# Altium footprint library SiLPA.PcbLib: 19 footprints (part 1 of 2)
Each footprint in its own frame and in the unit in brackets; x right, y up, seen from the top. Pads: shape width x height; smd on the part's side, far side on the other; paste and mask are expansions set on the pad; w line width, h text height; cw(c..) or ccw(c..) is an arc to the next point about the centre after c.
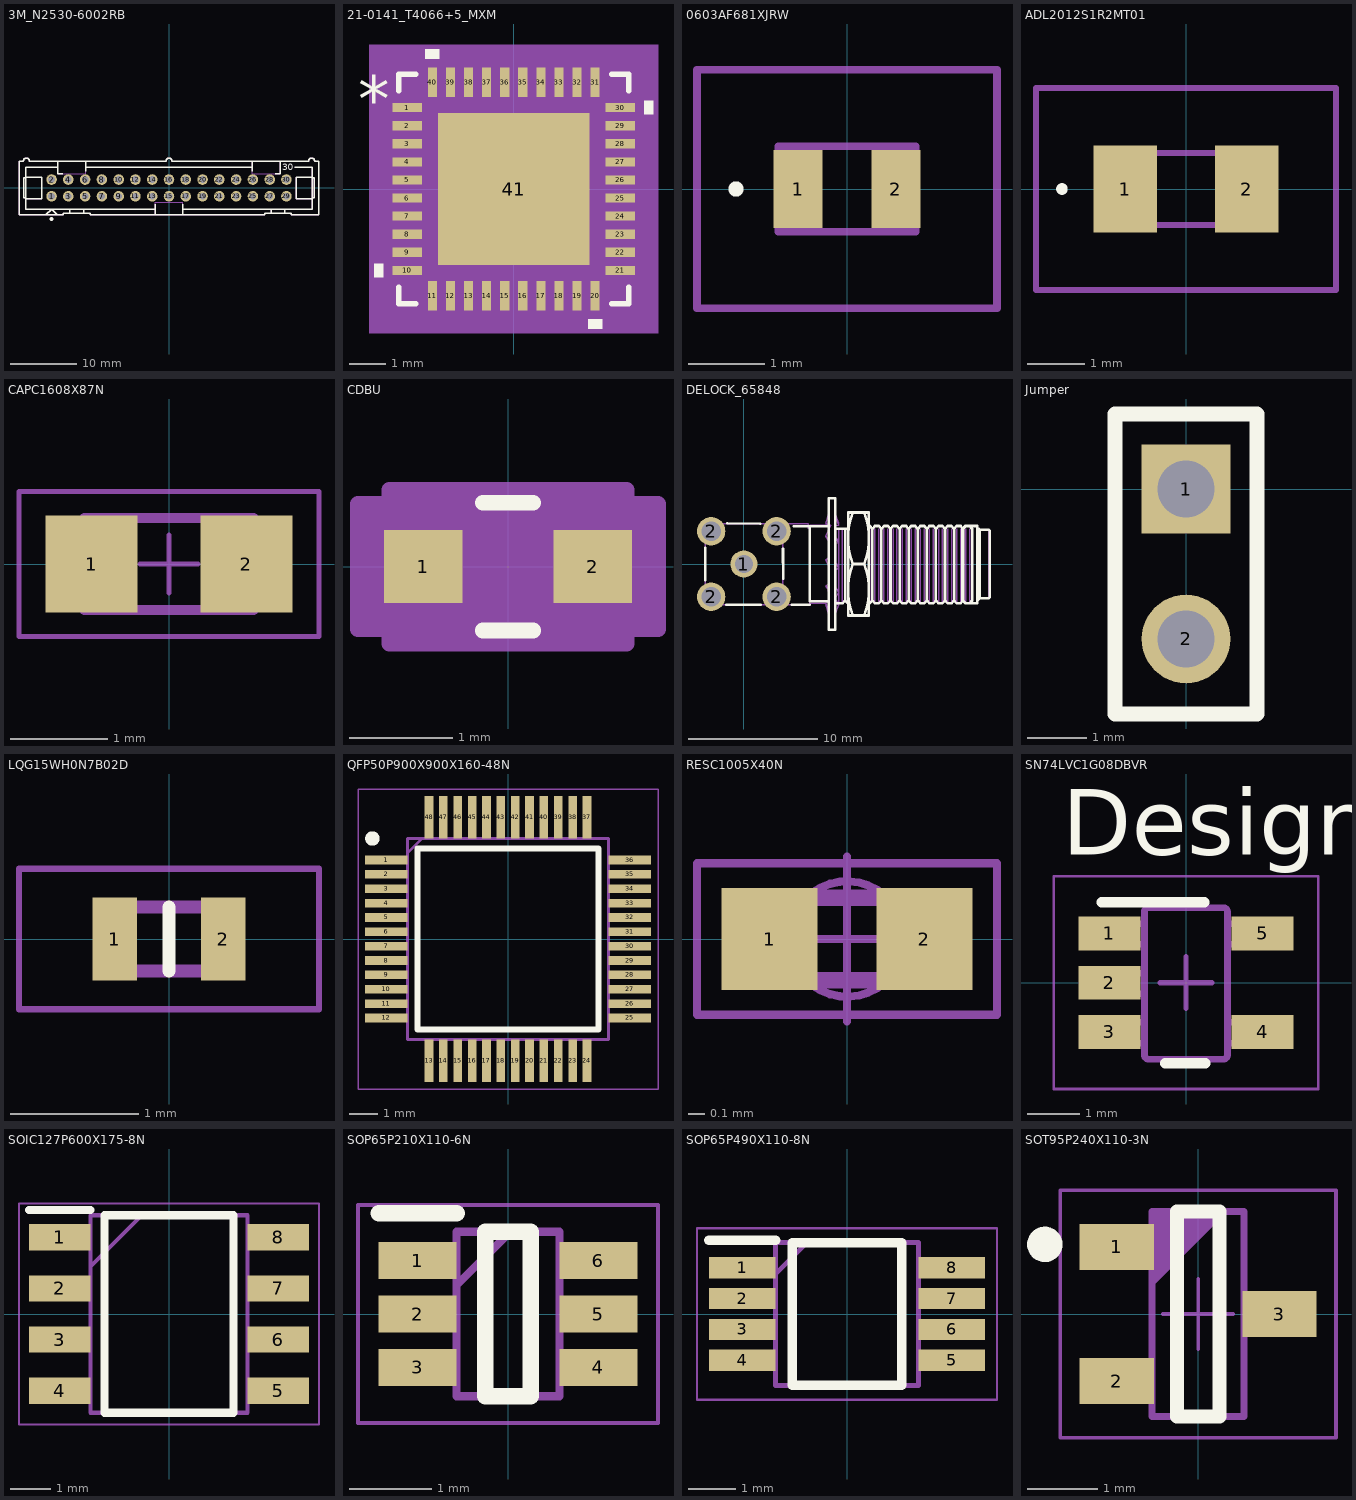
[diagram p0: the footprints below, top view; thin cyan lines are the x and y axes]

## 3M_N2530-6002RB [mm]
pads (30):
  round 1.6 hole 1: 1(-17.78,-1.27) 2(-17.78,1.27) 3(-15.24,-1.27) 4(-15.24,1.27) 5(-12.7,-1.27) 6(-12.7,1.27) 7(-10.16,-1.27) 8(-10.16,1.27) 9(-7.62,-1.27) 10(-7.62,1.27) 11(-5.08,-1.27) 12(-5.08,1.27) 13(-2.54,-1.27) 14(-2.54,1.27) 15(0,-1.27) 16(0,1.27) 17(2.54,-1.27) 18(2.54,1.27) 19(5.08,-1.27) 20(5.08,1.27) 21(7.62,-1.27) 22(7.62,1.27) 23(10.16,-1.27) 24(10.16,1.27) 25(12.7,-1.27) 26(12.7,1.27) 27(15.24,-1.27) 28(15.24,1.27) 29(17.78,-1.27) 30(17.78,1.27)
Top Overlay:
  circle w0.3: c-17.78,-4.699 r0.15
  lines w0.2: -21.692,-1.603 -19.279,-1.603 -19.279,1.603 -21.692,1.603 ; -21.692,-1.524 -21.996,-1.524 -21.996,1.524 -21.692,1.524 ; -18.644,-4.064 -17.78,-3.2 -16.916,-4.064 ; -16.828,3.15 -21.692,3.15 -21.692,-3.2 -2.096,-3.2 ; -16.828,4.064 -16.828,2.159 -16.119,2.159 ; -15.011,-3.835 -15.011,-3.2 ; -12.929,-3.835 -12.929,-3.2 ; -12.637,2.518 -12.637,4.064 ; -12.637,3.15 12.637,3.15 ; -2.096,-4.064 -2.096,-2.438 ; 2.095,-4.064 2.095,-2.438 ; 2.095,-3.2 21.692,-3.2 21.692,3.15 19.05,3.15 ; 12.637,2.518 12.637,4.064 ; 15.469,-3.835 15.469,-3.2 ; 16.119,2.159 16.828,2.159 16.828,4.064 ; 17.551,-3.835 17.551,-3.2 ; 21.692,-1.603 19.279,-1.603 19.279,1.603 21.692,1.603 ; 21.692,-1.524 21.996,-1.524 21.996,1.524 21.692,1.524 ; -22.708,-4.064 -22.708,4.064 -22.047,4.064 cw(c-21.59,4.064) -21.133,4.064 -0.457,4.064 cw(c0,4.064) 0.457,4.064 21.133,4.064 cw(c21.59,4.064) 22.047,4.064 22.708,4.064 22.708,-4.064 18.542,-4.064 18.542,-3.835 14.478,-3.835 14.478,-4.064 -11.938,-4.064 -11.938,-3.835 -16.002,-3.835 -16.002,-4.064 -22.708,-4.064
  text "30" at 17.145,2.667 h1.02
Mechanical 14:
  lines w0.1: -21.692,-1.603 -19.279,-1.603 -19.279,1.603 -21.692,1.603 ; -21.692,-1.524 -21.996,-1.524 -21.996,1.524 -21.692,1.524 ; -18.644,-4.064 -17.78,-3.2 -16.916,-4.064 ; -16.828,3.15 -21.692,3.15 -21.692,-3.2 -2.096,-3.2 ; -16.828,4.064 -16.828,2.159 -12.637,2.159 -12.637,4.064 ; -15.011,-3.835 -15.011,-3.2 ; -12.929,-3.835 -12.929,-3.2 ; -12.637,3.15 12.637,3.15 ; -2.096,-4.064 -2.096,-2.159 2.095,-2.159 2.095,-4.064 ; 2.095,-3.2 21.692,-3.2 21.692,3.15 19.05,3.15 ; 12.637,4.064 12.637,2.159 16.828,2.159 16.828,4.064 ; 15.469,-3.835 15.469,-3.2 ; 17.551,-3.835 17.551,-3.2 ; 21.692,-1.603 19.279,-1.603 19.279,1.603 21.692,1.603 ; 21.692,-1.524 21.996,-1.524 21.996,1.524 21.692,1.524 ; -22.708,-4.064 -22.708,4.064 -22.047,4.064 cw(c-21.59,4.064) -21.133,4.064 -0.457,4.064 cw(c0,4.064) 0.457,4.064 21.133,4.064 cw(c21.59,4.064) 22.047,4.064 22.708,4.064 22.708,-4.064 18.542,-4.064 18.542,-3.835 14.478,-3.835 14.478,-4.064 -11.938,-4.064 -11.938,-3.835 -16.002,-3.835 -16.002,-4.064 -22.708,-4.064
  text "30" at 17.145,2.667 h1.02
3D body "3M_N2530-6002RB.stp": height 9.91, standoff -2.84, extent -22.707,-4.115 22.708,4.521

## 21-0141_T4066+5_MXM [mil]
pads (41):
  rect 32x10 smd paste+0 mask+0: 1(-116,88.58) 2(-116,68.9) 3(-116,49.21) 4(-116,29.53) 5(-116,9.84) 6(-116,-9.84) 7(-116,-29.53) 8(-116,-49.21) 9(-116,-68.9) 10(-116,-88.58) 21(116,-88.58) 22(116,-68.9) 23(116,-49.21) 24(116,-29.53) 25(116,-9.84) 26(116,9.84) 27(116,29.53) 28(116,49.21) 29(116,68.9) 30(116,88.58)
  rect 10x32 smd paste+0 mask+0: 11(-88.58,-116) 12(-68.9,-116) 13(-49.21,-116) 14(-29.53,-116) 15(-9.84,-116) 16(9.84,-116) 17(29.53,-116) 18(49.21,-116) 19(68.9,-116) 20(88.58,-116) 31(88.58,116) 32(68.9,116) 33(49.21,116) 34(29.53,116) 35(9.84,116) 36(-9.84,116) 37(-29.53,116) 38(-49.21,116) 39(-68.9,116) 40(-88.58,116)
  rect 165x165 smd paste-82 mask+0: 41(0,0)
Top Overlay:
  region: -81.08,142 -96.08,142 -96.08,152 -81.08,152
  region: 142,96.08 152,96.08 152,81.08 142,81.08
  region: 96.08,-142 81.08,-142 81.08,-152 96.08,-152
  region: -142,-81.08 -152,-81.08 -152,-96.08 -142,-96.08
  lines w6: -125,-106.68 -125,-125 -106.68,-125 ; -125,106.68 -125,125 -106.68,125 ; 106.68,-125 125,-125 125,-106.68 ; 106.68,125 125,125 125,106.68
  text "*" at -169.5,73.43 h50
Top Paste:
  region: 78.56,-31.44 31.44,-31.44 31.44,-78.56 78.56,-78.56
  region: 78.56,23.56 31.44,23.56 31.44,-23.56 78.56,-23.56
  region: 78.56,78.56 31.44,78.56 31.44,31.44 78.56,31.44
  region: 23.56,-31.44 -23.56,-31.44 -23.56,-78.56 23.56,-78.56
  region: 23.56,23.56 -23.56,23.56 -23.56,-23.56 23.56,-23.56
  region: 23.56,78.56 -23.56,78.56 -23.56,31.44 23.56,31.44
  region: -31.44,-31.44 -78.56,-31.44 -78.56,-78.56 -31.44,-78.56
  region: -31.44,23.56 -78.56,23.56 -78.56,-23.56 -31.44,-23.56
  region: -31.44,78.56 -78.56,78.56 -78.56,31.44 -31.44,31.44
Mechanical 5:
  region: 157,-157 -157,-157 -157,157 157,157
Mechanical 13:
  lines w1: -120,70 -70,120 ; -120,-120 -120,120 120,120 120,-120 -120,-120 ; -120,-94.58 -120,-82.58 -120,-94.58 ; -120,-74.9 -120,-62.9 -120,-74.9 ; -120,-55.21 -120,-43.21 -120,-55.21 ; -120,-35.53 -120,-23.53 -120,-35.53 ; -120,-15.84 -120,-3.84 -120,-15.84 ; -120,3.84 -120,15.84 -120,3.84 ; -120,23.53 -120,35.53 -120,23.53 ; -120,43.21 -120,55.21 -120,43.21 ; -120,62.9 -120,74.9 -120,62.9 ; -120,82.58 -120,94.58 -120,82.58 ; -94.58,-120 -82.58,-120 -94.58,-120 ; -94.58,120 -82.58,120 -94.58,120 ; -74.9,-120 -62.9,-120 -74.9,-120 ; -74.9,120 -62.9,120 -74.9,120 ; -55.21,-120 -43.21,-120 -55.21,-120 ; -55.21,120 -43.21,120 -55.21,120 ; -35.53,-120 -23.53,-120 -35.53,-120 ; -35.53,120 -23.53,120 -35.53,120 ; -15.84,-120 -3.84,-120 -15.84,-120 ; -15.84,120 -3.84,120 -15.84,120 ; 3.84,-120 15.84,-120 3.84,-120 ; 3.84,120 15.84,120 3.84,120 ; 23.53,-120 35.53,-120 23.53,-120 ; 23.53,120 35.53,120 23.53,120 ; 43.21,-120 55.21,-120 43.21,-120 ; 43.21,120 55.21,120 43.21,120 ; 62.9,-120 74.9,-120 62.9,-120 ; 62.9,120 74.9,120 62.9,120 ; 82.58,-120 94.58,-120 82.58,-120 ; 82.58,120 94.58,120 82.58,120 ; 120,-94.58 120,-82.58 120,-94.58 ; 120,-74.9 120,-62.9 120,-74.9 ; 120,-55.21 120,-43.21 120,-55.21 ; 120,-35.53 120,-23.53 120,-35.53 ; 120,-15.84 120,-3.84 120,-15.84 ; 120,3.84 120,15.84 120,3.84 ; 120,23.53 120,35.53 120,23.53 ; 120,43.21 120,55.21 120,43.21 ; 120,62.9 120,74.9 120,62.9 ; 120,82.58 120,94.58 120,82.58
  text "*" at -112.5,73.43 h50
Mechanical 15:
  region: -103.58,-130 -130,-130 -130,-103.58 -142,-103.58 -142,103.58 -130,103.58 -130,130 -103.58,130 -103.58,142 103.58,142 103.58,130 130,130 130,103.58 142,103.58 142,-103.58 130,-103.58 130,-130 103.58,-130 103.58,-142 -103.58,-142
  lines w6: -142,-103.58 -142,103.58 -130,103.58 -130,130 -103.58,130 -103.58,142 103.58,142 103.58,130 130,130 130,103.58 142,103.58 142,-103.58 130,-103.58 130,-130 103.58,-130 103.58,-142 -103.58,-142 -103.58,-130 -130,-130 -130,-103.58 -142,-103.58
3D body "21-0141_T4066+5_MXM.step": height 32.09, standoff 0, extent -120,-120 120,120
3D body "21-0141_T4066+5_MXM.step": height 32.09, standoff 0, extent -120,-120 120,120

## 0603AF681XJRW [mm]
pads (2):
  rect 0.64x1.02 smd: 1(-0.64,0) 2(0.64,0)
Top Overlay:
  lines w0.1: -1.5,0 ccw(c-1.45,0) -1.4,0 ccw(c-1.45,0) -1.5,0
Mechanical 15:
  lines w0.1: -0.9,-0.56 -0.9,0.56 0.9,0.56 0.9,-0.56 -0.9,-0.56
Mechanical 20:
  lines w0.1: -1.96,-1.56 -1.96,1.56 1.96,1.56 1.96,-1.56 -1.96,-1.56
3D body "0603AF-681XJRW.stp": height 1.01, standoff 0, extent -0.9,-0.56 0.9,0.56
3D body "0603AF-681XJRW.stp": height 1.01, standoff 0, extent -0.9,-0.56 0.9,0.56

## ADL2012S1R2MT01 [mm]
pads (2):
  rect 1.1x1.5 smd: 1(-1.05,0) 2(1.05,0)
Top Overlay:
  lines w0.1: -2.2,0 cw(c-2.15,0) -2.1,0 cw(c-2.15,0) -2.2,0
Mechanical 15:
  lines w0.1: -1.1,-0.625 -1.1,0.625 1.1,0.625 1.1,-0.625 -1.1,-0.625
Mechanical 20:
  lines w0.1: -2.6,-1.75 -2.6,1.75 2.6,1.75 2.6,-1.75 -2.6,-1.75
3D body "adl2012.step": height 0.62, standoff -0.62, extent -1.1,-0.787 1.1,0.883

## CAPC1608X87N [mm]
pads (2):
  rect 0.95x1 smd: 1(-0.8,0) 2(0.8,0)
Mechanical 14:
  lines w0.1: -0.875,-0.475 -0.875,0.475 0.875,0.475 0.875,-0.475 -0.875,-0.475
Mechanical 15:
  lines w0.05: -0.3,0 0.3,0 ; 0,-0.3 0,0.3 ; -1.55,-0.75 1.55,-0.75 1.55,0.75 -1.55,0.75 -1.55,-0.75
3D body "CAPC1608X87N.stp": height 0.87, standoff 0, extent -0.875,-0.475 0.875,0.475

## CDBU [mil]
pads (2):
  rect 30x28 smd paste+0 mask+0: 1(-32.5,0) 2(32.5,0)
Top Overlay:
  lines w6: -9.67,-24.5 9.67,-24.5 ; -9.67,24.5 9.67,24.5
Mechanical 13:
  lines w0: -12,19.5 ccw(c0,19.5) 12,19.5
  lines w1: -35.5,-19.5 35.5,-19.5 35.5,19.5 -35.5,19.5 -35.5,-19.5
Mechanical 15:
  region: -45.5,-24 -57.5,-24 -57.5,24 -45.5,24 -45.5,29.5 45.5,29.5 45.5,24 57.5,24 57.5,-24 45.5,-24 45.5,-29.5 -45.5,-29.5
  lines w6: -57.5,-24 -57.5,24 -45.5,24 -45.5,29.5 45.5,29.5 45.5,24 57.5,24 57.5,-24 45.5,-24 45.5,-29.5 -45.5,-29.5 -45.5,-24 -57.5,-24
3D body "CDBU.step": height 33.11, standoff 0, extent -35.51,-19.49 35.51,19.49

## DELOCK_65848 [mm]
pads (5):
  round 2.1 hole 1.4: 1(0,0)
  round 2.2 hole 1.5: 2(-2.54,-2.54) 2(-2.54,2.54) 2(2.54,-2.54) 2(2.54,2.54)
Top Overlay:
  lines w0.2: -3,-1.25 -3,1.248 ; -1.359,-3.148 1.324,-3.148 ; -1.295,3.148 1.27,3.134 ; 3.04,1.175 3.06,-1.125 ; 3.734,-3.148 5.1,-3.148 ; 3.873,2.925 6.6,2.925 ; 5.1,2.925 5.1,-2.9 6.6,-2.9 ; 7.1,-3.05 7.655,-3.05 7.855,-2.825 ; 7.1,2.75 8.1,2.75 ; 7.855,2.75 7.855,-2.825 ; 8.1,-3.05 8.056,-3.05 7.855,-2.825 ; 8.457,-4 cw(c13.877,-2) 8.457,0 ; 8.457,4 ccw(c13.877,2) 8.457,0 ; 9.343,-4 ccw(c3.923,-2) 9.343,0 ; 9.343,4 cw(c3.923,2) 9.343,0 ; 9.7,-3.05 9.771,-3.05 9.972,-2.825 ; 9.7,2.95 9.771,2.95 9.972,2.725 10.173,2.95 10.477,2.95 10.678,2.725 10.878,2.95 11.182,2.95 11.383,2.725 11.584,2.95 11.888,2.95 12.089,2.725 12.289,2.95 12.593,2.95 12.794,2.725 12.995,2.95 13.299,2.95 13.5,2.725 13.701,2.95 14.005,2.95 14.205,2.725 14.406,2.95 14.71,2.95 14.911,2.725 15.112,2.95 15.416,2.95 15.616,2.725 15.817,2.95 16.121,2.95 16.322,2.725 16.523,2.95 16.827,2.95 17.028,2.725 17.228,2.95 17.532,2.95 17.733,2.725 ; 9.972,2.75 9.972,-2.825 ; 10.678,2.75 10.678,-2.825 ; 11.383,2.75 11.383,-2.825 ; 12.089,2.75 12.089,-2.825 ; 12.794,2.75 12.794,-2.825 ; 13.5,2.75 13.5,-2.825 ; 14.205,2.75 14.205,-2.825 ; 14.911,2.75 14.911,-2.825 ; 15.616,2.75 15.616,-2.825 ; 16.322,2.75 16.322,-2.825 ; 16.972,2.725 17.173,2.95 18.107,2.95 18.107,-2.85 ; 16.972,2.75 16.972,-2.825 17.173,-3.05 18.107,-3.05 18.107,2.75 ; 17.028,2.75 17.028,-2.825 ; 17.733,2.75 17.733,-2.825 17.532,-3.05 17.228,-3.05 17.028,-2.825 ; 18.107,-2.858 18.3,-2.675 18.3,2.675 18.221,2.75 ; 18.3,-2.665 19,-2.665 19.1,-2.565 19.1,2.565 19,2.665 18.3,2.665 ; 8.457,0 9.343,0 ; 9.972,-2.825 10.173,-3.05 10.477,-3.05 10.678,-2.825 ; 10.678,-2.825 10.878,-3.05 11.182,-3.05 11.383,-2.825 ; 11.383,-2.825 11.584,-3.05 11.888,-3.05 12.089,-2.825 ; 12.089,-2.825 12.289,-3.05 12.593,-3.05 12.794,-2.825 ; 12.794,-2.825 12.995,-3.05 13.299,-3.05 13.5,-2.825 ; 13.5,-2.825 13.701,-3.05 14.005,-3.05 14.205,-2.825 ; 14.205,-2.825 14.406,-3.05 14.71,-3.05 14.911,-2.825 ; 14.911,-2.825 15.112,-3.05 15.416,-3.05 15.616,-2.825 ; 15.616,-2.825 15.817,-3.05 16.121,-3.05 16.322,-2.825 ; 16.322,-2.825 16.523,-3.05 16.827,-3.05 17.028,-2.825 ; 6.6,-5.1 7.1,-5.1 7.1,5.1 6.6,5.1 6.6,-5.1 ; 8.1,-4 9.7,-4 9.7,4 8.1,4 8.1,-4
Mechanical 8:
  lines w0.1: -3.2,-2.03 -2.03,-2.03 ; -3.2,2.03 -2.03,2.03 ; -3.04,-2.54 -2.54,-2.54 ; -3.04,2.54 -2.54,2.54 ; -2.54,-3.04 -2.54,-2.54 ; -2.54,-2.04 -2.54,-2.54 ; -2.54,2.04 -2.54,2.54 ; -2.54,3.04 -2.54,2.54 ; -2.04,-2.54 -2.54,-2.54 ; -2.04,2.54 -2.54,2.54 ; -0.5,0 0,0 ; 0,-0.5 0,0 ; 0,0.5 0,0 ; 0.5,0 0,0 ; 2.03,2.03 3,2.03 ; 2.04,-2.54 2.54,-2.54 ; 2.04,2.54 2.54,2.54 ; 2.54,-3.04 2.54,-2.54 ; 2.54,-2.04 2.54,-2.54 ; 2.54,2.04 2.54,2.54 ; 2.54,3.04 2.54,2.54 ; 3.04,-2.54 2.54,-2.54 ; 3.04,2.54 2.54,2.54
Mechanical 14:
  drawing of 155 lines, arcs and shapes, not listed
3D body "SMA_Delock_65848.step": height 9.15, standoff -2.99, extent -3.04,-3.174 18.96,3.094

## Jumper [mm]
height 4.35
pads (2):
  rect 1.5x1.5 hole 0.965: 1(0,0)
  round 1.5 hole 0.965: 2(0,-2.54)
Top Overlay:
  lines w0.254: -1.2,-3.81 -1.2,1.27 1.2,1.27 1.2,-3.81 -1.2,-3.81
3D body "COMATEL_385.0358.1.02.400.stp": height 8, standoff -3.2, extent -1.256,-3.835 1.194,1.245

## LQG15WH0N7B02D [mm]
pads (2):
  rect 0.35x0.65 smd: 1(-0.425,0) 2(0.425,0)
Top Overlay:
  lines w0.1: 0,-0.25 0,0.25
Mechanical 15:
  lines w0.1: -0.5,-0.25 -0.5,0.25 0.5,0.25 0.5,-0.25 -0.5,-0.25
Mechanical 20:
  lines w0.05: -1.175,-0.55 -1.175,0.55 1.175,0.55 1.175,-0.55 -1.175,-0.55
3D body "LQG15HS1N5B02D.stp": height 0.55, standoff 0, extent -0.5,-0.25 0.5,0.25

## QFP50P900X900X160-48N [mm]
pads (48):
  rect 1.475x0.3 smd: 1(-4.238,2.75) 2(-4.238,2.25) 3(-4.238,1.75) 4(-4.238,1.25) 5(-4.238,0.75) 6(-4.238,0.25) 7(-4.238,-0.25) 8(-4.238,-0.75) 9(-4.238,-1.25) 10(-4.238,-1.75) 11(-4.238,-2.25) 12(-4.238,-2.75) 25(4.238,-2.75) 26(4.238,-2.25) 27(4.238,-1.75) 28(4.238,-1.25) 29(4.238,-0.75) 30(4.238,-0.25) 31(4.238,0.25) 32(4.238,0.75) 33(4.238,1.25) 34(4.238,1.75) 35(4.238,2.25) 36(4.238,2.75)
  rect 0.3x1.475 smd: 13(-2.75,-4.238) 14(-2.25,-4.238) 15(-1.75,-4.238) 16(-1.25,-4.238) 17(-0.75,-4.238) 18(-0.25,-4.238) 19(0.25,-4.238) 20(0.75,-4.238) 21(1.25,-4.238) 22(1.75,-4.238) 23(2.25,-4.238) 24(2.75,-4.238) 37(2.75,4.238) 38(2.25,4.238) 39(1.75,4.238) 40(1.25,4.238) 41(0.75,4.238) 42(0.25,4.238) 43(-0.25,4.238) 44(-0.75,4.238) 45(-1.25,4.238) 46(-1.75,4.238) 47(-2.25,4.238) 48(-2.75,4.238)
Top Overlay:
  circle w0.25: c-4.725,3.5 r0.125
  lines w0.2: -3.15,-3.15 3.15,-3.15 3.15,3.15 -3.15,3.15 -3.15,-3.15
Mechanical 15:
  lines w0.1: -3.5,3 -3,3.5 ; -3.5,-3.5 3.5,-3.5 3.5,3.5 -3.5,3.5 -3.5,-3.5
Mechanical 20:
  lines w0.05: -5.225,-5.225 5.225,-5.225 5.225,5.225 -5.225,5.225 -5.225,-5.225
3D body "STM32F072CBT6.stp": height 1.6, standoff 0, extent -4.5,-4.5 4.5,4.5

## RESC1005X40N [mm]
pads (2):
  rect 0.58x0.62 smd: 1(-0.47,0) 2(0.47,0)
Mechanical 14:
  lines w0.1: -0.5,-0.25 -0.5,0.25 0.5,0.25 0.5,-0.25 -0.5,-0.25
Mechanical 15:
  circle w0.05: c0,0 r0.35
  lines w0.05: -0.5,0 0.5,0 ; 0,-0.5 0,0.5 ; -0.91,-0.46 -0.91,0.46 0.91,0.46 0.91,-0.46 -0.91,-0.46
3D body "RESC1005X40N.stp": height 0.4, standoff 0, extent -0.525,-0.275 0.525,0.275

## SN74LVC1G08DBVR [mm]
pads (5):
  rect 1.2x0.65 smd paste+0 mask+0.051: 1(-1.475,0.95) 2(-1.475,0) 3(-1.475,-0.95) 4(1.475,-0.95) 5(1.475,0.95)
Top Overlay:
  lines w0.2: -1.625,1.55 0.35,1.55 ; -0.4,-1.55 0.375,-1.55
  text "Designator9" at -2.388,2.464 h1.27
Mechanical 13:
  lines w0.127: -0.801,1.371 cw(c-0.725,1.37) -0.725,1.446 ; -0.801,1.37 -0.801,1.371 ; -0.801,1.37 -0.801,-1.399 -0.801,-1.4 ccw(c-0.725,-1.399) -0.725,-1.475 ; -0.725,-1.475 0.723,-1.475 0.724,-1.475 ccw(c0.723,-1.399) 0.799,-1.4 0.799,-1.399 0.799,1.37 ; -0.725,-1.475 -0.725,-1.475 ; -0.725,1.446 -0.725,1.446 ; -0.725,1.446 0.723,1.446 0.724,1.446 cw(c0.723,1.37) 0.799,1.371 ; 0.799,1.37 0.799,1.371 ; -1.423,-1.167 -1.423,-0.767 -1.199,-0.767 -1.105,-0.767 -1.088,-0.767 -0.835,-0.767 -0.801,-0.767 -0.801,-1.167 -0.835,-1.167 -1.088,-1.167 -1.105,-1.167 -1.199,-1.167 -1.423,-1.167 ; -1.423,-0.215 -1.423,0.186 -1.199,0.186 -1.105,0.186 -1.088,0.186 -0.835,0.186 -0.801,0.186 -0.801,-0.215 -0.835,-0.215 -1.088,-0.215 -1.105,-0.215 -1.199,-0.215 -1.423,-0.215 ; -1.423,0.738 -1.423,1.138 -1.199,1.138 -1.105,1.138 -1.088,1.138 -0.835,1.138 -0.801,1.138 -0.801,0.738 -0.835,0.738 -1.088,0.738 -1.105,0.738 -1.199,0.738 -1.423,0.738 ; 0.799,-1.167 0.834,-1.167 1.087,-1.167 1.103,-1.167 1.198,-1.167 1.422,-1.167 1.422,-0.767 1.198,-0.767 1.103,-0.767 1.087,-0.767 0.834,-0.767 0.799,-0.767 0.799,-1.167 ; 0.799,0.738 0.834,0.738 1.087,0.738 1.103,0.738 1.198,0.738 1.422,0.738 1.422,1.138 1.198,1.138 1.103,1.138 1.087,1.138 0.834,1.138 0.799,1.138 0.799,0.738
Mechanical 15:
  lines w0.05: -2.55,-2.05 2.55,-2.05 2.55,2.05 -2.55,2.05 -2.55,-2.05
  lines w0.1: -0.5,0 0.5,0 ; 0,-0.5 0,0.5
3D body "DBV0005A.stp": height 1.2, standoff 0, extent -1.4,-1.45 1.4,1.45

## SOIC127P600X175-8N [mm]
pads (8):
  rect 1.528x0.65 smd: 1(-2.711,1.905) 2(-2.711,0.635) 3(-2.711,-0.635) 4(-2.711,-1.905) 5(2.711,-1.905) 6(2.711,-0.635) 7(2.711,0.635) 8(2.711,1.905)
Top Overlay:
  lines w0.2: -3.475,2.58 -1.948,2.58 ; -1.598,-2.452 -1.598,2.452 1.598,2.452 1.598,-2.452 -1.598,-2.452
Mechanical 15:
  lines w0.1: -1.948,1.182 -0.678,2.452 ; -1.948,-2.452 -1.948,2.452 1.948,2.452 1.948,-2.452 -1.948,-2.452
Mechanical 20:
  lines w0.05: -3.725,-2.75 -3.725,2.75 3.725,2.75 3.725,-2.75 -3.725,-2.75
3D body "TLC555IDR.stp": height 1.63, standoff 0, extent -3.011,-2.451 3.012,2.451

## SOP65P210X110-6N [mm]
pads (6):
  rect 0.95x0.45 smd: 1(-1.1,0.65) 2(-1.1,0) 3(-1.1,-0.65) 4(1.1,-0.65) 5(1.1,0) 6(1.1,0.65)
Top Overlay:
  lines w0.2: -1.575,1.225 -0.625,1.225 ; -0.275,-1 0.275,-1 0.275,1 -0.275,1 -0.275,-1
Mechanical 15:
  lines w0.1: -0.625,0.35 0.025,1 ; -0.625,-1 0.625,-1 0.625,1 -0.625,1 -0.625,-1
Mechanical 20:
  lines w0.05: -1.825,-1.325 1.825,-1.325 1.825,1.325 -1.825,1.325 -1.825,-1.325
3D body "LM66100DCKR.stp": height 1, standoff 0, extent -1.05,-1 1.05,1

## SOP65P490X110-8N [mm]
pads (8):
  rect 1.4x0.45 smd: 1(-2.2,0.975) 2(-2.2,0.325) 3(-2.2,-0.325) 4(-2.2,-0.975) 5(2.2,-0.975) 6(2.2,-0.325) 7(2.2,0.325) 8(2.2,0.975)
Top Overlay:
  lines w0.2: -2.9,1.55 -1.5,1.55 ; -1.15,-1.5 -1.15,1.5 1.15,1.5 1.15,-1.5 -1.15,-1.5
Mechanical 15:
  lines w0.1: -1.5,0.85 -0.85,1.5 ; -1.5,-1.5 -1.5,1.5 1.5,1.5 1.5,-1.5 -1.5,-1.5
Mechanical 20:
  lines w0.05: -3.15,-1.8 -3.15,1.8 3.15,1.8 3.15,-1.8 -3.15,-1.8
3D body "LM75AIMMX_NOPB.stp": height 1.1, standoff 0, extent -2.451,-1.498 2.451,1.499

## SOT95P240X110-3N [mm]
pads (3):
  rect 1.05x0.65 smd: 1(-1.15,0.95) 2(-1.15,-0.95) 3(1.15,0)
Top Overlay:
  circle w0.25: c-2.168,0.985 r0.125
  lines w0.2: -0.3,-1.45 -0.3,1.45 0.3,1.45 0.3,-1.45 -0.3,-1.45
Mechanical 14:
  lines w0.1: -0.65,0.45 0.35,1.45 ; -0.65,0.55 0.25,1.45 ; -0.65,0.65 0.15,1.45 ; -0.65,0.75 0.05,1.45 ; -0.65,0.85 -0.05,1.45 ; -0.65,0.95 -0.15,1.45 ; -0.65,1.05 -0.25,1.45 ; -0.65,1.15 -0.35,1.45 ; -0.65,1.25 -0.45,1.45 ; -0.65,1.35 -0.55,1.45 ; -0.65,-1.45 0.65,-1.45 0.65,1.45 -0.65,1.45 -0.65,-1.45
Mechanical 15:
  lines w0.05: -0.5,0 0.5,0 ; 0,-0.5 0,0.5 ; -1.95,-1.75 1.95,-1.75 1.95,1.75 -1.95,1.75 -1.95,-1.75
3D body "SOT95P240X110-3N.stp": height 1.1, standoff 0, extent -1.25,-1.5 1.25,1.5